# Altium schematic symbol library 磁导航.SchLib: 6 symbols
Pins are listed as number, name and electrical type; pins without a type are passive.

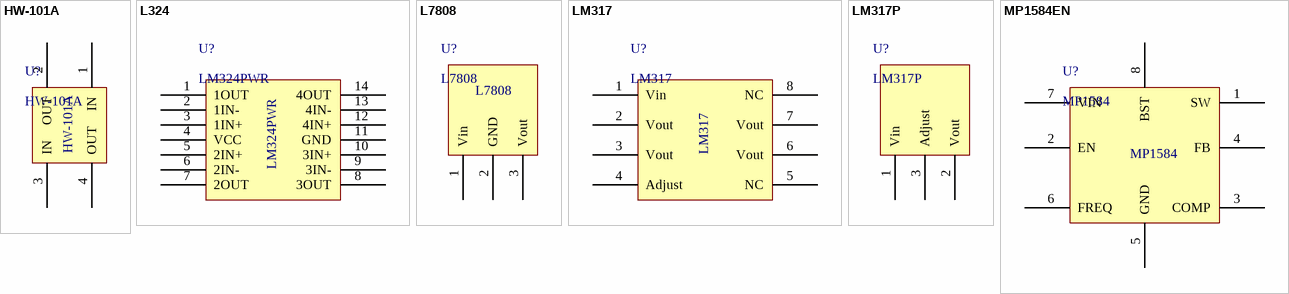
[diagram p0: symbols HW-101A to MP1584EN]

## HW-101A
designator U?
pins: 1 IN, 2 OUT, 3 IN, 4 OUT

## L324
designator U?, comment LM324PWR
pins: 1 1OUT, 2 1IN-, 3 1IN+, 4 VCC, 5 2IN+, 6 2IN-, 7 2OUT, 8 3OUT, 9 3IN-, 10 3IN+, 11 GND, 12 4IN+, 13 4IN-, 14 4OUT

## L7808
designator U?
pins: 1 Vin, 2 GND, 3 Vout

## LM317
designator U?
pins: 1 Vin, 2 Vout, 3 Vout, 4 Adjust, 5 NC, 6 Vout, 7 Vout, 8 NC

## LM317P
designator U?
pins: 1 Vin, 2 Vout, 3 Adjust

## MP1584EN
designator U?, comment MP1584
pins: 1 SW, 2 EN, 3 COMP, 4 FB, 5 GND, 6 FREQ, 7 VIN, 8 BST